# Altium schematic symbol library Pad.SchLib: 1 symbol
Pins are listed as number, name and electrical type; pins without a type are passive.

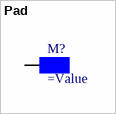
[diagram p0: symbol Pad]

## Pad
designator M?  (no BOM)
pins: 1 0